# Altium schematic symbol library Jumper 5.SchLib: 1 symbol
Pins are listed as number, name and electrical type; pins without a type are passive.

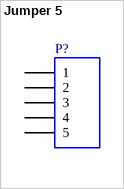
[diagram p0: symbol Jumper 5]

## Jumper 5
designator P?
Jumper / link header, 5-Pin
pins: 1, 2, 3, 4, 5